# EAGLE library part LIGHT_SENSOR (library gecko)
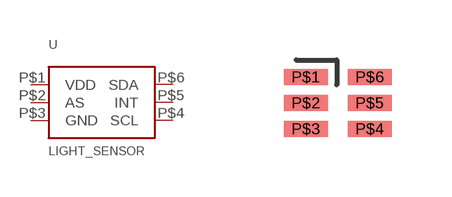
[diagram p8: symbol with the pads of DFNL-6; footprint DFNL-6]

Designator prefix -

## LIGHT_SENSOR  [DFNL-6]
P$1  VDD
P$2  AS
P$3  GND
P$4  SCL
P$5  INT
P$6  SDA

## Footprint DFNL-6 (pad centres in mm)
smd 1.1 x 0.4: P$1 -0.8,0.65; P$2 -0.8,0; P$3 -0.8,-0.65; P$4 0.8,-0.65; P$5 0.8,0; P$6 0.8,0.65